# Altium footprint library Gelnar.PcbLib: 295 footprints (part 7 of 19)
Each footprint in its own frame and in the unit in brackets; x right, y up, seen from the top. Pads: shape width x height; smd on the part's side, far side on the other; paste and mask are expansions set on the pad; w line width, h text height; cw(c..) or ccw(c..) is an arc to the next point about the centre after c.
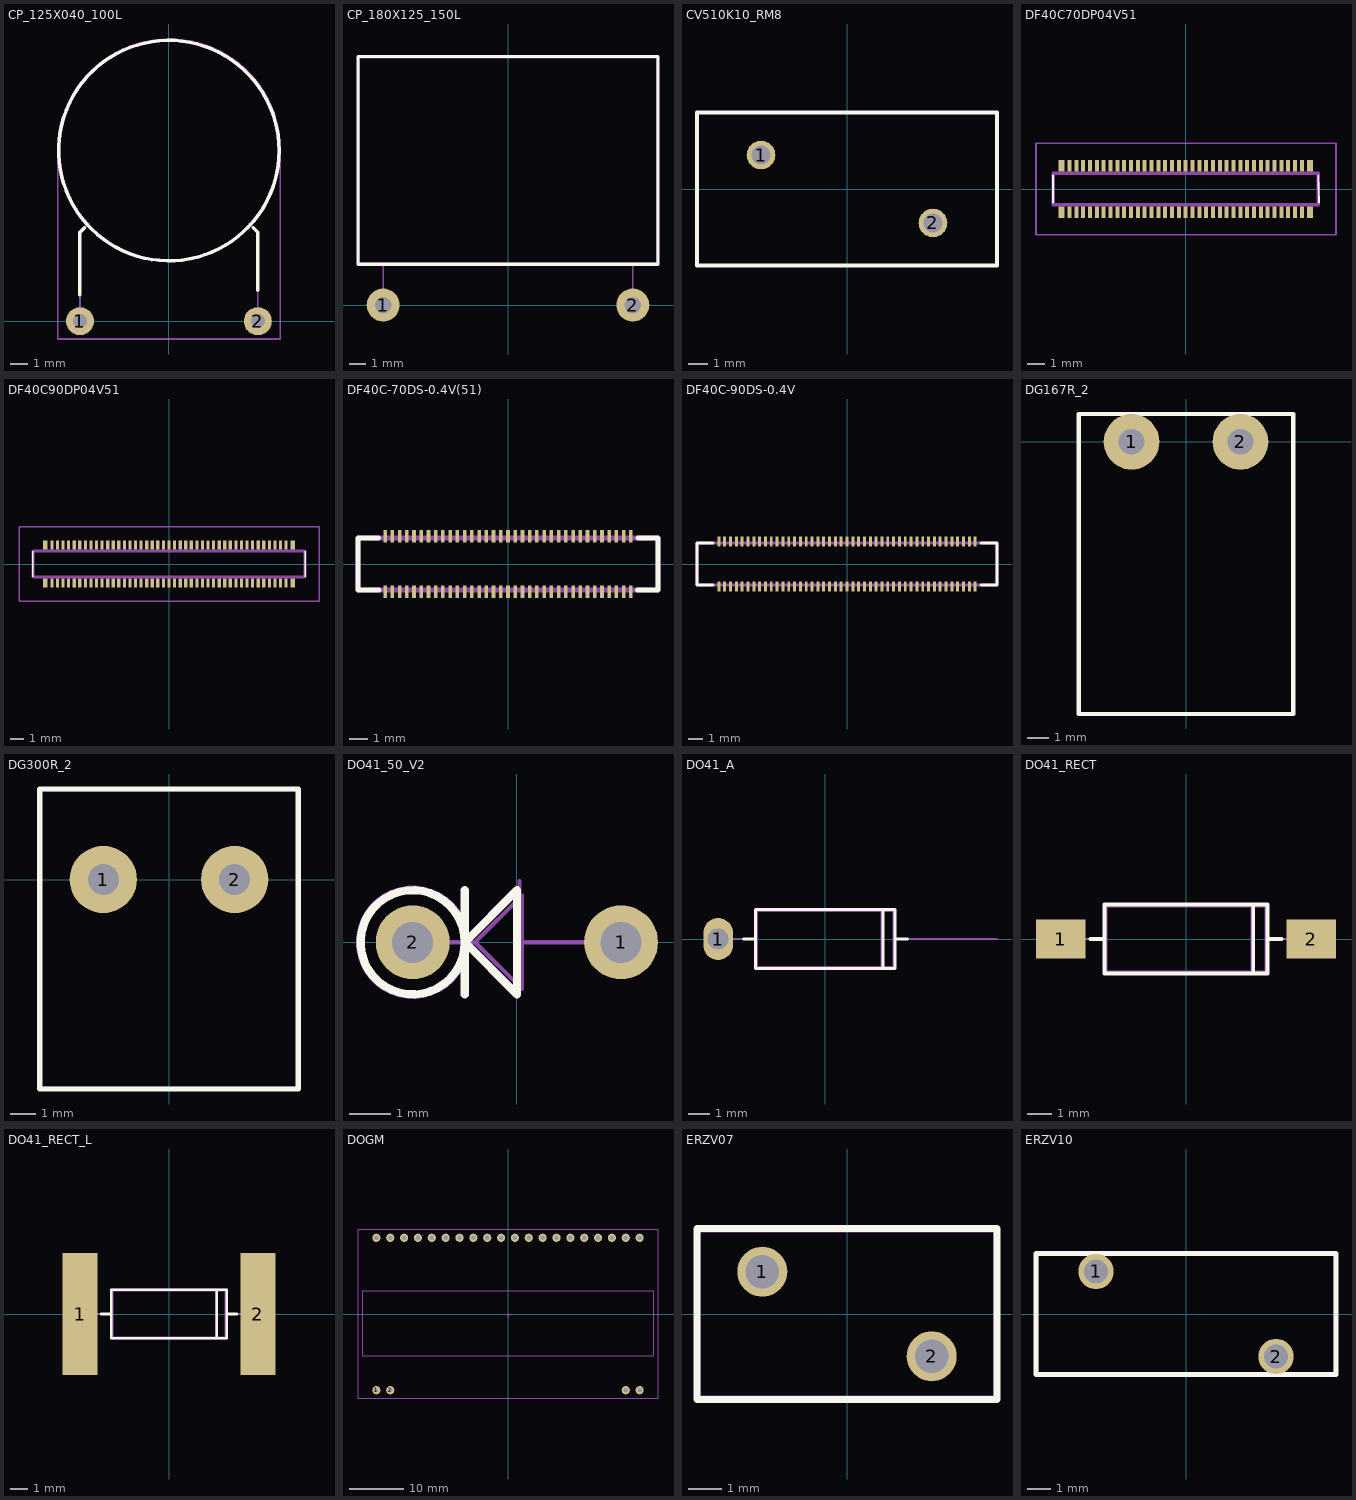
[diagram p6: the footprints below, top view; thin cyan lines are the x and y axes]

## CP_125X040_100L [mm]
height 9.5
pads (2):
  round 1.6 hole 0.8 mask+0.05: 1(-5.08,0) 2(5.08,0)
Top Overlay:
  circle w0.2: c0,9.75 r6.3
  lines w0.2: -5.08,1.524 -5.08,5.08 -4.826,5.334 ; 4.826,5.334 5.08,5.08 5.08,1.778
Mechanical 15:
  circle w0.1: c0,9.75 r6.25
  lines w0.1: -5.08,0.508 -5.08,5.08 -4.572,5.588 ; 4.572,5.588 5.08,5.08 5.08,0.508
Mechanical 20:
  lines w0.09: -6.35,9.847 cw(c0.005,9.769) 0.072,16.125 ; -6.35,9.85 -6.35,-1.016 6.35,-1.016 6.35,9.85 ccw(c0.064,9.839) 0.075,16.125

## CP_180X125_150L [mm]
height 9.5
pads (2):
  round 2 hole 1 mask+0.1: 1(-7.556,0) 2(7.556,0)
Top Overlay:
  lines w0.2: -9.08,2.476 9.08,2.476 9.08,15.05 -9.08,15.05 -9.08,2.476
Mechanical 15:
  lines w0.1: -7.556,0 -7.556,2.54 ; 7.556,0 7.556,2.54 ; -9.017,2.54 9.017,2.54 9.017,14.986 -9.017,14.986 -9.017,2.54
Multi-Layer:
  text "Value" at -1.235,8.021 h0.75
Mechanical 20:
  lines w0.1: -9.08,2.476 9.08,2.476 9.08,15.05 -9.08,15.05 -9.08,2.476

## CV510K10_RM8 [mm]
height 16
pads (2):
  round 1.5 hole 1 mask+0.05: 1(-4.5,1.778) 2(4.5,-1.778)
Top Overlay:
  lines w0.2: -7.85,-4 -7.85,4 7.85,4 7.85,-4 -7.85,-4
Mechanical 15:
  lines w0.1: -7.786,-4 -7.786,4 7.786,4 7.786,-4 -7.786,-4
Mechanical 20:
  lines w0.1: -7.85,-4 -7.85,4 7.85,4 7.85,-4 -7.85,-4
3D body: height 13.25, standoff 0.75, extent -6.25,-3.9 6.25,3.9

## DF40C70DP04V51 [mm]
pads (74):
  rect 0.23x0.66 smd: 1(-6.8,-1.355) 2(-6.8,1.355) 3(-6.4,-1.355) 4(-6.4,1.355) 5(-6,-1.355) 6(-6,1.355) 7(-5.6,-1.355) 8(-5.6,1.355) 9(-5.2,-1.355) 10(-5.2,1.355) 11(-4.8,-1.355) 12(-4.8,1.355) 13(-4.4,-1.355) 14(-4.4,1.355) 15(-4,-1.355) 16(-4,1.355) 17(-3.6,-1.355) 18(-3.6,1.355) 19(-3.2,-1.355) 20(-3.2,1.355) 21(-2.8,-1.355) 22(-2.8,1.355) 23(-2.4,-1.355) 24(-2.4,1.355) 25(-2,-1.355) 26(-2,1.355) 27(-1.6,-1.355) 28(-1.6,1.355) 29(-1.2,-1.355) 30(-1.2,1.355) 31(-0.8,-1.355) 32(-0.8,1.355) 33(-0.4,-1.355) 34(-0.4,1.355) 35(0,-1.355) 36(0,1.355) 37(0.4,-1.355) 38(0.4,1.355) 39(0.8,-1.355) 40(0.8,1.355) 41(1.2,-1.355) 42(1.2,1.355) 43(1.6,-1.355) 44(1.6,1.355) 45(2,-1.355) 46(2,1.355) 47(2.4,-1.355) 48(2.4,1.355) 49(2.8,-1.355) 50(2.8,1.355) 51(3.2,-1.355) 52(3.2,1.355) 53(3.6,-1.355) 54(3.6,1.355) 55(4,-1.355) 56(4,1.355) 57(4.4,-1.355) 58(4.4,1.355) 59(4.8,-1.355) 60(4.8,1.355) 61(5.2,-1.355) 62(5.2,1.355) 63(5.6,-1.355) 64(5.6,1.355) 65(6,-1.355) 66(6,1.355) 67(6.4,-1.355) 68(6.4,1.355) 69(6.8,-1.355) 70(6.8,1.355)
  rect 0.35x0.66 smd: MP1(7.275,-1.355) MP2(7.275,1.355) MP3(-7.275,1.355) MP4(-7.275,-1.355)
Top Overlay:
  lines w0.1: -7.76,-0.8 -7.76,0.8 ; 7.76,0.8 7.8,-0.8
Mechanical 15:
  lines w0.2: -7.76,-0.925 7.76,-0.925 7.76,0.925 -7.76,0.925 -7.76,-0.925
Mechanical 20:
  lines w0.1: -8.76,-2.685 8.8,-2.685 8.8,2.685 -8.76,2.685 -8.76,-2.685

## DF40C90DP04V51 [mm]
pads (90):
  rect 0.35x0.66 smd: 1(-8.875,-1.355) 2(-8.875,1.355) 89(8.875,-1.355) 90(8.875,1.355)
  rect 0.23x0.66 smd: 3(-8.4,-1.355) 4(-8.4,1.355) 5(-8,-1.355) 6(-8,1.355) 7(-7.6,-1.355) 8(-7.6,1.355) 9(-7.2,-1.355) 10(-7.2,1.355) 11(-6.8,-1.355) 12(-6.8,1.355) 13(-6.4,-1.355) 14(-6.4,1.355) 15(-6,-1.355) 16(-6,1.355) 17(-5.6,-1.355) 18(-5.6,1.355) 19(-5.2,-1.355) 20(-5.2,1.355) 21(-4.8,-1.355) 22(-4.8,1.355) 23(-4.4,-1.355) 24(-4.4,1.355) 25(-4,-1.355) 26(-4,1.355) 27(-3.6,-1.355) 28(-3.6,1.355) 29(-3.2,-1.355) 30(-3.2,1.355) 31(-2.8,-1.355) 32(-2.8,1.355) 33(-2.4,-1.355) 34(-2.4,1.355) 35(-2,-1.355) 36(-2,1.355) 37(-1.6,-1.355) 38(-1.6,1.355) 39(-1.2,-1.355) 40(-1.2,1.355) 41(-0.8,-1.355) 42(-0.8,1.355) 43(-0.4,-1.355) 44(-0.4,1.355) 45(0,-1.355) 46(0,1.355) 47(0.4,-1.355) 48(0.4,1.355) 49(0.8,-1.355) 50(0.8,1.355) 51(1.2,-1.355) 52(1.2,1.355) 53(1.6,-1.355) 54(1.6,1.355) 55(2,-1.355) 56(2,1.355) 57(2.4,-1.355) 58(2.4,1.355) 59(2.8,-1.355) 60(2.8,1.355) 61(3.2,-1.355) 62(3.2,1.355) 63(3.6,-1.355) 64(3.6,1.355) 65(4,-1.355) 66(4,1.355) 67(4.4,-1.355) 68(4.4,1.355) 69(4.8,-1.355) 70(4.8,1.355) 71(5.2,-1.355) 72(5.2,1.355) 73(5.6,-1.355) 74(5.6,1.355) 75(6,-1.355) 76(6,1.355) 77(6.4,-1.355) 78(6.4,1.355) 79(6.8,-1.355) 80(6.8,1.355) 81(7.2,-1.355) 82(7.2,1.355) 83(7.6,-1.355) 84(7.6,1.355) 85(8,-1.355) 86(8,1.355) 87(8.4,-1.355) 88(8.4,1.355)
Top Overlay:
  lines w0.1: -9.76,-0.925 -9.76,0.925 ; 9.76,-0.925 9.76,0.925
Mechanical 15:
  lines w0.2: -9.76,-0.925 9.76,-0.925 9.76,0.925 -9.76,0.925 -9.76,-0.925
Mechanical 20:
  lines w0.1: -10.76,-2.685 10.76,-2.685 10.76,2.685 -10.76,2.685 -10.76,-2.685

## DF40C-70DS-0.4V(51) [mm]
pads (70):
  rect 0.2x0.7 smd: 1(-6.8,-1.54) 2(-6.8,1.54) 3(-6.4,-1.54) 4(-6.4,1.54) 5(-6,-1.54) 6(-6,1.54) 7(-5.6,-1.54) 8(-5.6,1.54) 9(-5.2,-1.54) 10(-5.2,1.54) 11(-4.8,-1.54) 12(-4.8,1.54) 13(-4.4,-1.54) 14(-4.4,1.54) 15(-4,-1.54) 16(-4,1.54) 17(-3.6,-1.54) 18(-3.6,1.54) 19(-3.2,-1.54) 20(-3.2,1.54) 21(-2.8,-1.54) 22(-2.8,1.54) 23(-2.4,-1.54) 24(-2.4,1.54) 25(-2,-1.54) 26(-2,1.54) 27(-1.6,-1.54) 28(-1.6,1.54) 29(-1.2,-1.54) 30(-1.2,1.54) 31(-0.8,-1.54) 32(-0.8,1.54) 33(-0.4,-1.54) 34(-0.4,1.54) 35(0,-1.54) 36(0,1.54) 37(0.4,-1.54) 38(0.4,1.54) 39(0.8,-1.54) 40(0.8,1.54) 41(1.2,-1.54) 42(1.2,1.54) 43(1.6,-1.54) 44(1.6,1.54) 45(2,-1.54) 46(2,1.54) 47(2.4,-1.54) 48(2.4,1.54) 49(2.8,-1.54) 50(2.8,1.54) 51(3.2,-1.54) 52(3.2,1.54) 53(3.6,-1.54) 54(3.6,1.54) 55(4,-1.54) 56(4,1.54) 57(4.4,-1.54) 58(4.4,1.54) 59(4.8,-1.54) 60(4.8,1.54) 61(5.2,-1.54) 62(5.2,1.54) 63(5.6,-1.54) 64(5.6,1.54) 65(6,-1.54) 66(6,1.54) 67(6.4,-1.54) 68(6.4,1.54) 69(6.8,-1.54) 70(6.8,1.54)
Top Overlay:
  lines w0.254: -7.144,1.44 -8.3,1.44 -8.3,-1.44 -7.116,-1.44 ; 7.158,-1.44 8.3,-1.44 8.3,1.44 7.172,1.44
Mechanical 15:
  lines w0.254: -8.3,-1.44 8.3,-1.44 8.3,1.44 -8.3,1.44 -8.3,-1.44

## DF40C-90DS-0.4V [mm]
pads (90):
  rect 0.2x0.7 smd: 1(-8.8,-1.54) 2(-8.8,1.54) 3(-8.4,-1.54) 4(-8.4,1.54) 5(-8,-1.54) 6(-8,1.54) 7(-7.6,-1.54) 8(-7.6,1.54) 9(-7.2,-1.54) 10(-7.2,1.54) 11(-6.8,-1.54) 12(-6.8,1.54) 13(-6.4,-1.54) 14(-6.4,1.54) 15(-6,-1.54) 16(-6,1.54) 17(-5.6,-1.54) 18(-5.6,1.54) 19(-5.2,-1.54) 20(-5.2,1.54) 21(-4.8,-1.54) 22(-4.8,1.54) 23(-4.4,-1.54) 24(-4.4,1.54) 25(-4,-1.54) 26(-4,1.54) 27(-3.6,-1.54) 28(-3.6,1.54) 29(-3.2,-1.54) 30(-3.2,1.54) 31(-2.8,-1.54) 32(-2.8,1.54) 33(-2.4,-1.54) 34(-2.4,1.54) 35(-2,-1.54) 36(-2,1.54) 37(-1.6,-1.54) 38(-1.6,1.54) 39(-1.2,-1.54) 40(-1.2,1.54) 41(-0.8,-1.54) 42(-0.8,1.54) 43(-0.4,-1.54) 44(-0.4,1.54) 45(0,-1.54) 46(0,1.54) 47(0.4,-1.54) 48(0.4,1.54) 49(0.8,-1.54) 50(0.8,1.54) 51(1.2,-1.54) 52(1.2,1.54) 53(1.6,-1.54) 54(1.6,1.54) 55(2,-1.54) 56(2,1.54) 57(2.4,-1.54) 58(2.4,1.54) 59(2.8,-1.54) 60(2.8,1.54) 61(3.2,-1.54) 62(3.2,1.54) 63(3.6,-1.54) 64(3.6,1.54) 65(4,-1.54) 66(4,1.54) 67(4.4,-1.54) 68(4.4,1.54) 69(4.8,-1.54) 70(4.8,1.54) 71(5.2,-1.54) 72(5.2,1.54) 73(5.6,-1.54) 74(5.6,1.54) 75(6,-1.54) 76(6,1.54) 77(6.4,-1.54) 78(6.4,1.54) 79(6.8,-1.54) 80(6.8,1.54) 81(7.2,-1.54) 82(7.2,1.54) 83(7.6,-1.54) 84(7.6,1.54) 85(8,-1.54) 86(8,1.54) 87(8.4,-1.54) 88(8.4,1.54) 89(8.8,-1.54) 90(8.8,1.54)
Top Overlay:
  lines w0.2: -9.2,-1.44 -10.3,-1.44 -10.3,1.44 -9.2,1.44 ; 9.2,-1.44 10.3,-1.44 10.3,1.44 9.2,1.44
Mechanical 15:
  lines w0.2: -10.3,-1.44 10.3,-1.44 10.3,1.44 -10.3,1.44 -10.3,-1.44

## DG167R_2 [mm]
pads (2):
  round 2.6 hole 1.2 mask+0.1: 1(-2.54,0) 2(2.54,0)
Top Overlay:
  lines w0.2: -5,-12.7 5,-12.7 5,1.3 -5,1.3 -5,-12.7
Mechanical 15:
  circle w0.1: c-2.54,0 r0.65
  circle w0.1: c2.54,0 r0.65
  lines w0.1: -5,-12.7 -5,1.3 5,1.3 5,-12.7 -5,-12.7
Mechanical 16:
  circle w0.1: c-2.54,0 r0.65
  circle w0.1: c2.54,0 r0.65
Multi-Layer:
  text "Value" at -1.235,-1.504 h0.75
Mechanical 20:
  lines w0.1: -4.953,-12.661 4.953,-12.661 4.953,1.261 -4.953,1.261 -4.953,-12.661

## DG300R_2 [mm]
pads (2):
  round 2.6 hole 1.2 mask+0.1: 1(-2.54,0) 2(2.54,0)
Top Overlay:
  lines w0.2: -5,-8.1 5,-8.1 5,3.5 -5,3.5 -5,-8.1
Mechanical 15:
  circle w0.1: c-2.54,0 r0.65
  circle w0.1: c2.54,0 r0.65
  lines w0.1: -5,-8.1 -5,3.5 5,3.5 5,-8.1 -5,-8.1
Mechanical 16:
  circle w0.1: c-2.54,0 r0.65
  circle w0.1: c2.54,0 r0.65
Multi-Layer:
  text "Value" at -1.235,-1.504 h0.75
Mechanical 20:
  lines w0.1: -4.953,-8.061 4.953,-8.061 4.953,3.461 -4.953,3.461 -4.953,-8.061

## DO41_50_V2 [mm]
pads (2):
  round 1.8 hole 1 mask+0.1: 1(2.54,0) 2(-2.54,0)
Top Overlay:
  circle w0.2: c-2.54,0 r1.27
  lines w0.2: -1.27,-1.27 -1.27,1.27 ; -1.27,0 0,1.27 0,0 0,-1.27 -1.27,0
Mechanical 15:
  circle w0.1: c-2.54,0 r1.333
  lines w0.1: -2.54,0 -1.016,0 ; 0.066,-0.793 0.066,1.493 ; 2.54,0 0.127,0 ; -1.016,0 0.127,-1.143 0.127,0 ; -1.016,0 0.127,1.143 0.127,0

## DO41_A [mm]
pads (1):
  oval 1.4x2 / inner round 1.8 / far side oval 1.4x2 hole 1 mask-0.05: 1(-5.08,0)
Top Overlay:
  lines w0.15: -3.873,0 -3.302,0 ; 2.73,-1.397 2.73,1.397 ; 3.302,0 3.873,0 ; -3.302,-1.397 3.302,-1.397 3.302,1.397 -3.302,1.397 -3.302,-1.397
Mechanical 15:
  lines w0.1: -5.08,0 -3.238,0 ; 2.667,-1.333 2.667,1.333 ; 3.238,0 8.128,0 ; -3.238,-1.333 -3.238,1.333 3.238,1.333 3.238,-1.333 -3.238,-1.333
Mechanical 20:
  lines w0.1: -3.302,-1.397 3.302,-1.397 3.302,1.397 -3.302,1.397 -3.302,-1.397

## DO41_RECT [mm]
pads (2):
  rect 2x1.6 smd mask+0.05: 1(-5.08,0) 2(5.08,0)
Top Overlay:
  lines w0.15: -3.873,0 -3.302,0 ; 2.73,-1.397 2.73,1.397 ; 3.302,0 3.873,0 ; -3.302,-1.397 3.302,-1.397 3.302,1.397 -3.302,1.397 -3.302,-1.397
Mechanical 15:
  lines w0.1: -5.08,0 -3.238,0 ; 2.667,-1.333 2.667,1.333 ; 3.238,0 5.08,0 ; -3.238,-1.333 -3.238,1.333 3.238,1.333 3.238,-1.333 -3.238,-1.333
Mechanical 20:
  lines w0.1: -3.302,-1.397 3.302,-1.397 3.302,1.397 -3.302,1.397 -3.302,-1.397

## DO41_RECT_L [mm]
pads (2):
  rect 2x7 smd mask+0.05: 1(-5.08,0) 2(5.08,0)
Top Overlay:
  lines w0.15: -3.873,0 -3.302,0 ; 2.73,-1.397 2.73,1.397 ; 3.302,0 3.873,0 ; -3.302,-1.397 3.302,-1.397 3.302,1.397 -3.302,1.397 -3.302,-1.397
Mechanical 15:
  lines w0.1: -5.08,0 -3.238,0 ; 2.667,-1.333 2.667,1.333 ; 3.238,0 5.08,0 ; -3.238,-1.333 -3.238,1.333 3.238,1.333 3.238,-1.333 -3.238,-1.333
Multi-Layer:
  text "Value" at -1.299,-1.06 h0.75
Mechanical 20:
  lines w0.1: -3.302,-1.397 3.302,-1.397 3.302,1.397 -3.302,1.397 -3.302,-1.397

## DOGM [mm]
pads (24):
  round 1.5 hole 0.8 mask+0.1: 1(-24.13,-13.97) 2(-21.59,-13.97) 19(21.59,-13.97) 20(24.13,-13.97) 21(24.13,13.97) 22(21.59,13.97) 23(19.05,13.97) 24(16.51,13.97) 25(13.97,13.97) 26(11.43,13.97) 27(8.89,13.97) 28(6.35,13.97) 29(3.81,13.97) 30(1.27,13.97) 31(-1.27,13.97) 32(-3.81,13.97) 33(-6.35,13.97) 34(-8.89,13.97) 35(-11.43,13.97) 36(-13.97,13.97) 37(-16.51,13.97) 38(-19.05,13.97) 39(-21.59,13.97) 40(-24.13,13.97)
Mechanical 15:
  lines w0.1: -27.5,-15.5 27.5,-15.5 27.5,15.5 -27.5,15.5 -27.5,-15.5 ; -26.67,-7.78 26.67,-7.78 26.67,4.22 -26.67,4.22 -26.67,-7.78
Multi-Layer:
  text "Value" at -1.038,-2.572 h0.75
Mechanical 19:
  lines w0.1: 0,-0.635 0,0 0.635,0

## ERZV07 [mm]
height 9.5
pads (2):
  round 1.5 hole 1 mask+0.05: 1(-2.54,1.27) 2(2.54,-1.27)
Top Overlay:
  lines w0.2: -4.5,-2.564 4.5,-2.564 4.5,2.564 -4.5,2.564 -4.5,-2.564
Mechanical 15:
  lines w0.1: -4.45,-2.501 4.45,-2.501 4.45,2.501 -4.45,2.501 -4.45,-2.501
Multi-Layer:
  text "Value" at -1.108,-1.353 h0.75
Mechanical 20:
  lines w0.1: -4.5,-2.564 4.5,-2.564 4.5,2.564 -4.5,2.564 -4.5,-2.564

## ERZV10 [mm]
height 9.5
pads (2):
  round 1.5 hole 1 mask+0.05: 1(-3.81,1.8) 2(3.81,-1.8)
Top Overlay:
  lines w0.2: -6.35,-2.564 6.35,-2.564 6.35,2.564 -6.35,2.564 -6.35,-2.564
Mechanical 15:
  lines w0.1: -6.286,-2.501 6.286,-2.501 6.286,2.501 -6.286,2.501 -6.286,-2.501
Mechanical 20:
  lines w0.1: -6.35,-2.564 6.35,-2.564 6.35,2.564 -6.35,2.564 -6.35,-2.564